# Altium footprint library Transmitter1.PcbLib: 7 footprints
Each footprint in its own frame and in the unit in brackets; x right, y up, seen from the top. Pads: shape width x height; smd on the part's side, far side on the other; paste and mask are expansions set on the pad; w line width, h text height; cw(c..) or ccw(c..) is an arc to the next point about the centre after c.
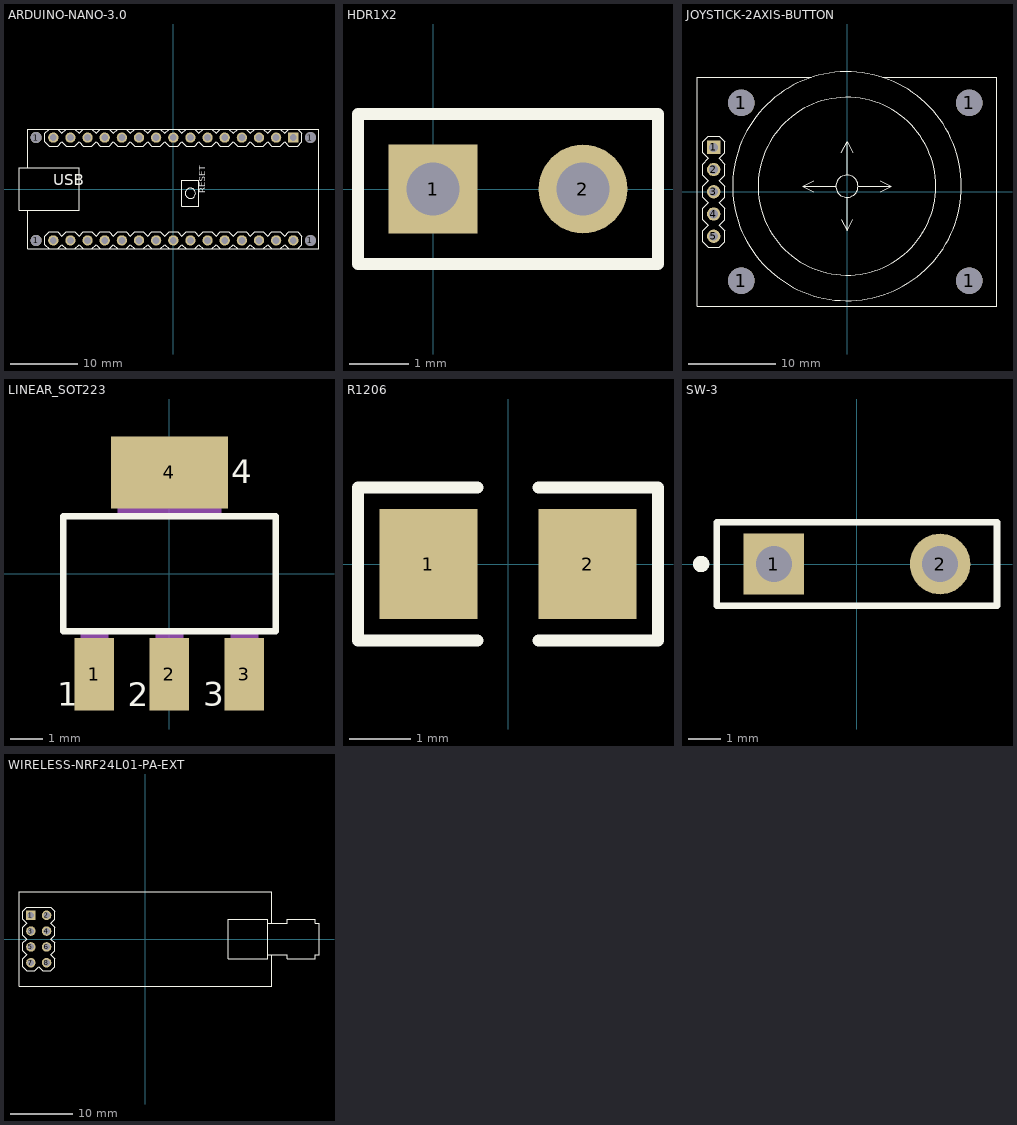
[diagram p0: the footprints below, top view; thin cyan lines are the x and y axes]

## ARDUINO-NANO-3.0 [mil]
pads (34):
  round 65 hole 65: 1(-800,-300) 1(-800,300) 1(800,-300) 1(800,300)
  rect 60x60 hole 40: J1.1(700,300)
  round 60 hole 40: J1.2(600,300) J1.3(500,300) J1.4(400,300) J1.5(300,300) J1.6(200,300) J1.7(100,300) J1.8(0,300) J1.9(-100,300) J1.10(-200,300) J1.11(-300,300) J1.12(-400,300) J1.13(-500,300) J1.14(-600,300) J1.15(-700,300) J2.1(700,-300) J2.2(600,-300) J2.3(500,-300) J2.4(400,-300) J2.5(300,-300) J2.6(200,-300) J2.7(100,-300) J2.8(0,-300) J2.9(-100,-300) J2.10(-200,-300) J2.11(-300,-300) J2.12(-400,-300) J2.13(-500,-300) J2.14(-600,-300) J2.15(-700,-300)
Top Overlay:
  drawing of 209 lines, arcs and shapes, not listed
  text "RESET" at 200,-25 h62
  text "USB" at -700,0 h108.5

## HDR1X2 [mm] "Connector; Header; 2 Position"
pads (2):
  rect 1.5x1.5 hole 0.9: 1(0,0)
  round 1.5 hole 0.9: 2(2.54,0)
Top Overlay:
  lines w0.2: -1.27,-1.27 3.81,-1.27 3.81,1.27 -1.27,1.27 -1.27,-1.27

## JOYSTICK-2AXIS-BUTTON [mil]
pads (9):
  rect 60x60 hole 40: 1(-600,200)
  round 119 hole 119: 1(-475,-400) 1(-475,400) 1(550,-400) 1(550,400)
  round 60 hole 40: 2(-600,100) 3(-600,0) 4(-600,-100) 5(-600,-200)
Top Overlay:
  circle w5: c0,25 r50
  circle w5: c0,25 r400
  circle w5: c0,25 r515
  lines w5: -160,515 -675,515 -675,-515 675,-515 675,515 160,515 ; -150,0 -200,25 ; -150,50 -200,25 ; -50,25 -200,25 ; -25,-125 0,-175 ; -25,175 0,225 ; 0,-25 0,-175 ; 0,75 0,225 ; 25,-125 0,-175 ; 25,175 0,225 ; 50,25 200,25 ; 150,0 200,25 ; 150,50 200,25 ; -650,-225 -625,-250 -575,-250 -550,-225 -550,-175 -575,-150 -550,-125 -550,-75 -575,-50 -550,-25 -550,25 -575,50 -550,75 -550,125 -575,150 -550,175 -550,225 -575,250 -625,250 -650,225 -650,175 -625,150 -650,125 -650,75 -625,50 -650,25 -650,-25 -625,-50 -650,-75 -650,-125 -625,-150 -650,-175 -650,-225

## LINEAR_SOT223 [mil] "LINEAR_SOT223"
pads (4):
  rect 48x88 smd: 1(-91,-122) 2(0,-122) 3(91,-122)
  rect 142x87 smd: 4(0,123)
Top Overlay:
  lines w8: -129,-70 129,-70 129,70 -129,70 -129,-70
  text "3" at 41,-170 h49.6
  text "4" at 75,100 h49.6
  text "1" at -135.93,-170 h49.6
  text "2" at -50.81,-170.37 h49.6
Mechanical 16:
  rectangle: -63,71 63,144
  rectangle: -17,-144 17,-71
  rectangle: -108,-144 -74,-71
  rectangle: 74,-144 108,-71
  rectangle: -63,71 63,144
  rectangle: -17,-144 17,-71
  rectangle: -108,-144 -74,-71
  rectangle: 74,-144 108,-71

## R1206 [mm]
height 1.5
pads (2):
  rect 1.6x1.8 smd: 1(-1.301,0) 2(1.299,0)
Top Overlay:
  lines w0.2: -0.5,-1.25 -2.45,-1.25 -2.45,1.25 -0.5,1.25 ; 0.5,-1.25 2.45,-1.25 2.45,1.25 0.5,1.25
3D body: height 1, standoff 0, extent -1.605,-0.79 1.595,0.81

## SW-3 [mm] "Switch; 2 Leads"
pads (2):
  rect 1.85x1.85 hole 1.1: 1(-2.54,0)
  round 1.85 hole 1.1: 2(2.54,0)
Top Overlay:
  circle w0.25: c-4.761,-0.001 r0.125
  lines w0.2: -4.28,-1.27 -4.28,1.27 4.28,1.27 4.28,-1.27 -4.28,-1.27

## WIRELESS-NRF24L01-PA-EXT [mil]
pads (8):
  rect 60x60 hole 40: 1(-725,150)
  round 60 hole 40: 2(-625,150) 3(-725,50) 4(-625,50) 5(-725,-50) 6(-625,-50) 7(-725,-150) 8(-625,-150)
Top Overlay:
  lines w5: 775,-100 800,-100 ; 775,-100 775,-125 525,-125 525,125 775,125 775,100 ; 775,-100 775,100 ; 775,100 800,100 ; 800,-100 800,-300 -800,-300 -800,300 800,300 800,100 ; 800,-100 900,-100 900,-125 1075,-125 1075,-100 1100,-100 1100,100 1075,100 1075,125 900,125 900,100 800,100 ; -775,-175 -775,-125 -750,-100 -775,-75 -775,-25 -750,0 -775,25 -775,75 -750,100 -775,125 -775,175 -750,200 -600,200 -575,175 -575,125 -600,100 -575,75 -575,25 -600,0 -575,-25 -575,-75 -600,-100 -575,-125 -575,-175 -600,-200 -650,-200 -675,-175 -700,-200 -750,-200 -775,-175